# Altium schematic symbol library CER_CAP.SchLib: 1 symbol
Pins are listed as number, name and electrical type; pins without a type are passive.

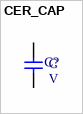
[diagram p0: symbol CER_CAP]

## CER_CAP
designator C?  Capacitance: C  Voltage Rating: V
=Description; Tolerance: T
pins: 1, 2